# Altium footprint library TSSOP24_AD.PcbLib: 1 footprints
Each footprint in its own frame and in the unit in brackets; x right, y up, seen from the top. Pads: shape width x height; smd on the part's side, far side on the other; paste and mask are expansions set on the pad; w line width, h text height; cw(c..) or ccw(c..) is an arc to the next point about the centre after c.
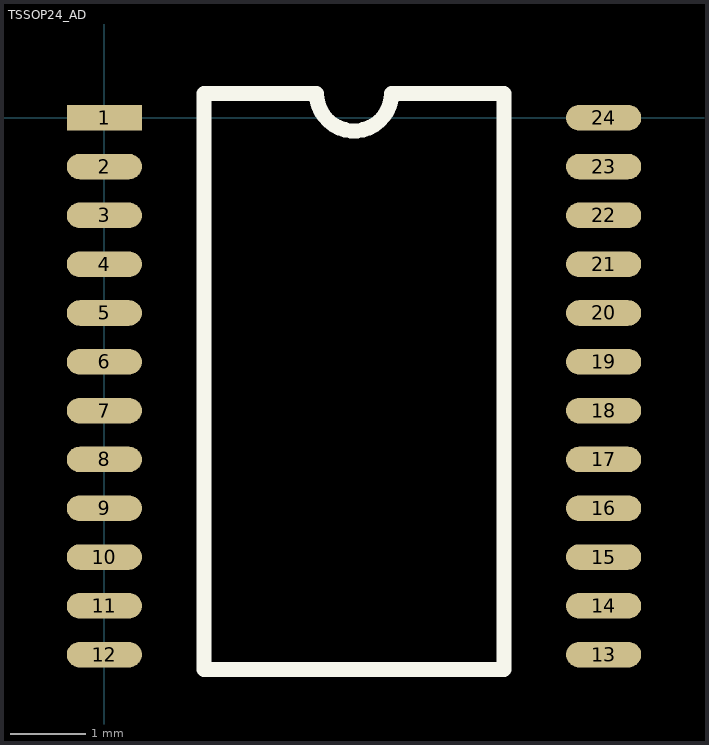
[diagram p0: the footprint, top view; thin cyan lines are the x and y axes]

## TSSOP24_AD [mm]
pads (24):
  rect 1x0.34 smd: 1(0,0)
  oval 1x0.34 smd: 2(0,-0.65) 3(0,-1.3) 4(0,-1.95) 5(0,-2.6) 6(0,-3.25) 7(0,-3.9) 8(0,-4.55) 9(0,-5.2) 10(0,-5.85) 11(0,-6.5) 12(0,-7.15) 13(6.65,-7.15) 14(6.65,-6.5) 15(6.65,-5.85) 16(6.65,-5.2) 17(6.65,-4.55) 18(6.65,-3.9) 19(6.65,-3.25) 20(6.65,-2.6) 21(6.65,-1.95) 22(6.65,-1.3) 23(6.65,-0.65) 24(6.65,0)
Top Overlay:
  lines w0.2: 1.325,-7.35 5.325,-7.35 5.325,0.325 3.825,0.325 cw(c3.325,0.325) 2.825,0.325 1.325,0.325 1.325,-7.35